# Altium footprint library Components - 30.01.24 - 14.53.PcbLib: 4 footprints
Each footprint in its own frame and in the unit in brackets; x right, y up, seen from the top. Pads: shape width x height; smd on the part's side, far side on the other; paste and mask are expansions set on the pad; w line width, h text height; cw(c..) or ccw(c..) is an arc to the next point about the centre after c.
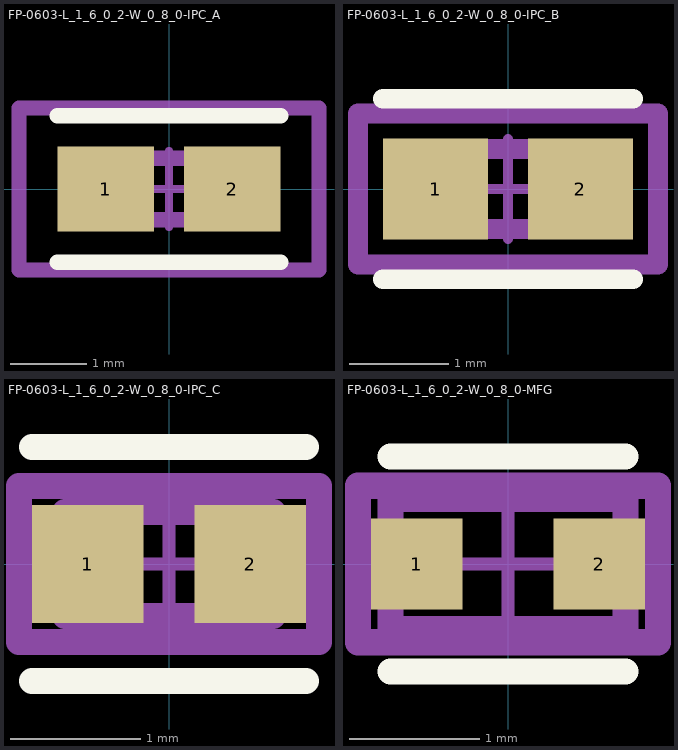
[diagram p0: the footprints below, top view; thin cyan lines are the x and y axes]

## FP-0603-L_1_6_0_2-W_0_8_0-IPC_A [mm]
pads (2):
  rect 1.258x1.112 smd paste+0 mask+0: 1(-0.827,0) 2(0.827,0)
Top Overlay:
  lines w0.2: -1.456,-0.956 1.456,-0.956 ; -1.456,0.956 1.456,0.956
Top Assembly:
  lines w0.2: -1.956,-1.056 1.956,-1.056 1.956,1.056 -1.956,1.056 -1.956,-1.056
  text ".Designator" at 0,0.188 h1
Top 3D Body:
  lines w0.2: -0.8,-0.4 0.8,-0.4 0.8,0.4 -0.8,0.4 -0.8,-0.4
Top Courtyard:
  lines w0.2: -1.956,-1.056 1.956,-1.056 1.956,1.056 -1.956,1.056 -1.956,-1.056
Top Component Center:
  lines w0.1: -0.5,0 0.5,0 ; 0,-0.5 0,0.5
3D body "Cap_Taiyo_Yuden_AMK107BBJ476MA-RE_eec.STEP": height 0.25, standoff 0, extent -1.956,-1.056 1.956,1.056

## FP-0603-L_1_6_0_2-W_0_8_0-IPC_B [mm]
pads (2):
  rect 1.058x1.012 smd paste+0 mask+0: 1(-0.727,0) 2(0.727,0)
Top Overlay:
  lines w0.2: -1.256,-0.906 1.256,-0.906 ; -1.256,0.906 1.256,0.906
Top Assembly:
  lines w0.2: -1.506,-0.756 1.506,-0.756 1.506,0.756 -1.506,0.756 -1.506,-0.756
  text ".Designator" at 0,0.188 h1
Top 3D Body:
  lines w0.2: -0.8,-0.4 0.8,-0.4 0.8,0.4 -0.8,0.4 -0.8,-0.4
Top Courtyard:
  lines w0.2: -1.506,-0.756 1.506,-0.756 1.506,0.756 -1.506,0.756 -1.506,-0.756
Top Component Center:
  lines w0.1: -0.5,0 0.5,0 ; 0,-0.5 0,0.5
3D body "Cap_Taiyo_Yuden_AMK107BBJ476MA-RE_eec.STEP": height 0.25, standoff 0, extent -1.506,-0.756 1.506,0.756

## FP-0603-L_1_6_0_2-W_0_8_0-IPC_C [mm]
pads (2):
  rect 0.858x0.912 smd paste+0 mask+0: 1(-0.627,0) 2(0.627,0)
Top Overlay:
  lines w0.2: -1.056,-0.9 1.056,-0.9 ; -1.056,0.9 1.056,0.9
Top Assembly:
  lines w0.2: -1.156,-0.6 1.156,-0.6 1.156,0.6 -1.156,0.6 -1.156,-0.6
  text ".Designator" at 0,0.188 h1
Top 3D Body:
  lines w0.2: -0.8,-0.4 0.8,-0.4 0.8,0.4 -0.8,0.4 -0.8,-0.4
Top Courtyard:
  lines w0.2: -1.156,-0.6 1.156,-0.6 1.156,0.6 -1.156,0.6 -1.156,-0.6
Top Component Center:
  lines w0.1: -0.5,0 0.5,0 ; 0,-0.5 0,0.5
3D body "Cap_Taiyo_Yuden_AMK107BBJ476MA-RE_eec.STEP": height 0.25, standoff 0, extent -1.156,-0.6 1.156,0.6

## FP-0603-L_1_6_0_2-W_0_8_0-MFG [mm]
pads (2):
  rect 0.7x0.7 smd paste+0 mask+0: 1(-0.7,0) 2(0.7,0)
Top Overlay:
  lines w0.2: -0.9,-0.825 0.9,-0.825 ; -0.9,0.825 0.9,0.825
Top Assembly:
  lines w0.2: -1.15,-0.6 1.15,-0.6 1.15,0.6 -1.15,0.6 -1.15,-0.6
  text ".Designator" at 0,0.188 h1
Top 3D Body:
  lines w0.2: -0.9,-0.5 0.9,-0.5 0.9,0.5 -0.9,0.5 -0.9,-0.5
Top Courtyard:
  lines w0.2: -1.15,-0.6 1.15,-0.6 1.15,0.6 -1.15,0.6 -1.15,-0.6
Top Component Center:
  lines w0.1: -0.5,0 0.5,0 ; 0,-0.5 0,0.5
3D body "Cap_Taiyo_Yuden_AMK107BBJ476MA-RE_eec.STEP": height 0.25, standoff 0, extent -1.15,-0.6 1.15,0.6